# Altium schematic symbol library SMDH2016B260TF_24.SchLib: 1 symbol
Pins are listed as number, name and electrical type; pins without a type are passive.

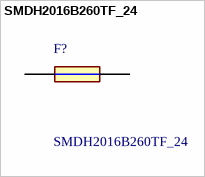
[diagram p0: symbol SMDH2016B260TF_24]

## SMDH2016B260TF_24
designator F?
Resettable Fuses - PPTC 2016 24V 2.60A 1.5W SMD AEC-Q200 High Temp; Manufacturer_Name: Yageo Group; Manufacturer_Part_Number: SMDH2016B260TF/24; Geometry.Height: 1.6mm; Mouser Part Number: *; Mouser Price/Stock: *; Datasheet Link: https://www.yageogroup.com/content/datasheet/asset/file/SMDH2016_1
footprint FUSC5141X160N
pins: 1, 2